# Altium integrated library MixedSignal.IntLib: 1 symbol
Pins are listed as number, name and electrical type; pins without a type are passive.

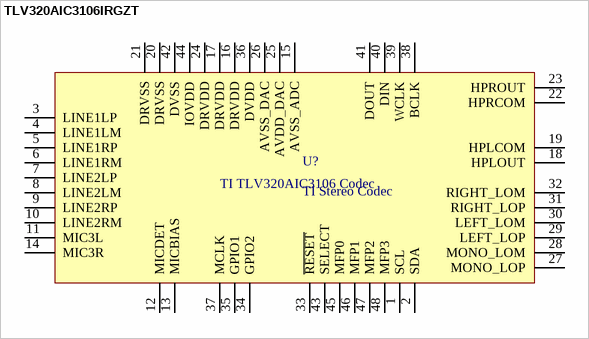
[diagram p0: symbol TLV320AIC3106IRGZT]

## TLV320AIC3106IRGZT
designator U?, comment TI Stereo Codec
TI TLV320AIC3106 Stereo Codec, 96ksps, 32bit
footprint TI_HVQFN48_N_RGZ (QFN, 48-Leads, Body 7.00x7.00mm, Pitch 0.50mm, Thermal Pad 5.00x5.00mm, IPC Medium Density)
pins: 1 SCL, 2 SDA, 3 LINE1LP, 4 LINE1LM, 5 LINE1RP, 6 LINE1RM, 7 LINE2LP, 8 LINE2LM, 9 LINE2RP, 10 LINE2RM, 11 MIC3L, 12 MICDET, 13 MICBIAS, 14 MIC3R, 15 AVSS_ADC, 16 DRVDD, 17 DRVDD, 18 HPLOUT, 19 HPLCOM, 20 DRVSS, 21 DRVSS, 22 HPRCOM, 23 HPROUT, 24 DRVDD, 25 AVDD_DAC, 26 AVSS_DAC, 27 MONO_LOP, 28 MONO_LOM, 29 LEFT_LOP, 30 LEFT_LOM, 31 RIGHT_LOP, 32 RIGHT_LOM, 33 ~{RESET}, 34 GPIO2, 35 GPIO1, 36 DVDD, 37 MCLK, 38 BCLK, 39 WCLK, 40 DIN, 41 DOUT, 42 DVSS, 43 SELECT, 44 IOVDD, 45 MFP0, 46 MFP1, 47 MFP2, 48 MFP3
text: TI TLV320AIC3106 Codec